# Altium integrated library Linear Technology Power Management PMIC Multifunction.IntLib: 360 symbols (part 1 of 42)
Pins are listed as number, name and electrical type; pins without a type are passive.

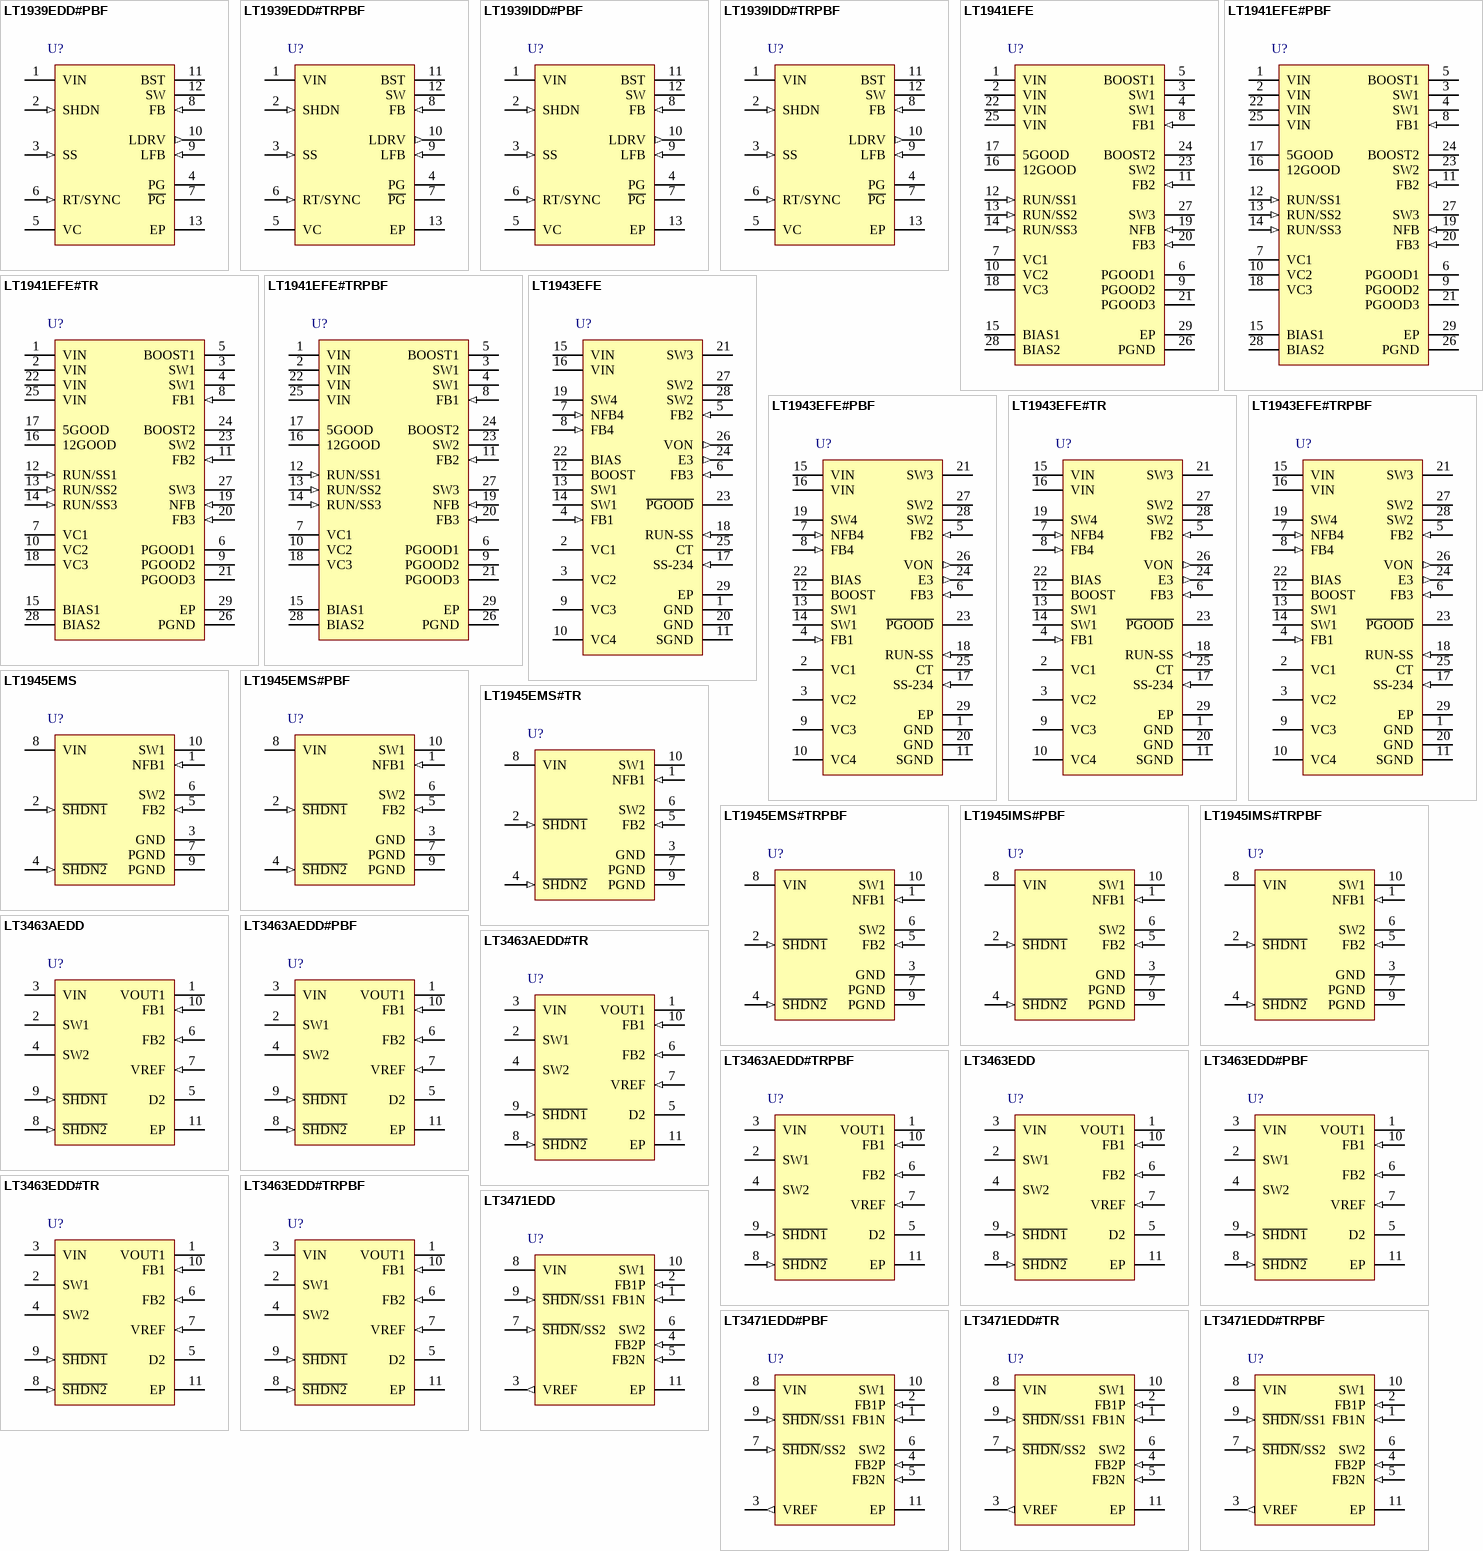
[diagram p0: symbols LT1939EDD#PBF to LT3471EDD#TRPBF]

## LT1939EDD#PBF
designator U?
Monolithic 2 A Step-Down Regulator Plus Linear Regulator / Controller, 3 to 25 V Vin, 12-pin SON (DD-12), -40 to 125 degC, Pb-Free; Manufacturer: Linear Technology; PartNumber: LT1939EDD#PBF; Number of Outputs: 2; Vin Max(V): 25; Vin Min(V): 3; PackageVersion: Rev. A, 06/2010; PackageReference: DD-12; PackageDescription: 12-Pin Plastic DFN, Body 3 x 3 mm, Pitch 0.45 mm; Supplier 1: Digi-Key; Supplier Part Number 1: LT1939EDD#PBF-ND; Supplier 2: Farnell; Supplier Part Number 2: 1628758; Supplier 3: Newark; Supplier Part Number 3: 75M6070; RoHS: TRUE; Mounting Technology: Surface Mount; ComponentLink1Description: Manufacturer URL; ComponentLink1URL: http://www.linear.com/; ComponentLink2Description: Datasheet; ComponentLink2URL: http://cds.linear.com/docs/en/datasheet/1939f.pdf; ComponentLink3Description: Package Specification; ComponentLink3URL: http://cds.linear.com/docs/en/packaging/DFN_12_05-08-1725.pdf
footprint LT-DD-12_V (SON, 12-Leads, Body 3x3mm, Pitch 0.45mm, Thermal Pad 2.38x1.65mm)
pins: 1 VIN (power) "The VIN pin powers the internal control circuitry and is monitored by an undervoltage comparator. The VIN pin is also connected to the collectors of the internal power NPN switch and linear output NPN. The VIN pin has high (See Datasheet)", 2 SHDN (in), 3 SS (in) "The SS pin is used to control the slew rate of the output of both the switching and linear regulators. A single capacitor from the SS pin to ground determines the regulators’ ramp rate. For soft-start details see th(See Datasheet)", 4 PG (oc) "The power good pin is an open-collector output that sinks current when the FB or LFB falls below 90% of its nominal regulating voltage. For VIN above 2V, its output state remains true, although during SHDN, VIN undervoltage (See Datasheet)", 5 VC "The VC pin is the output of the error amplifier and the input to the peak switch current comparator. It is normally used for frequency compensation, but can also be used as a current clamp or control loop override. If the (See Datasheet)", 6 RT/SYNC (in) "This RT/SYNC pin provides two modes of setting the constant switch frequency. Connecting a resistor from the RT/SYNC pin to ground will set the RT/SYNC pin to a typical value of 1V. The resultant switching frequency will be (See Datasheet)", 7 ~{PG} (oc) "The power good bar pin is an open-collector output that sinks current when the FB or LFB rises above 90% of its nominal regulating voltage.", 8 FB (in) "The FB pin is the negative input to the switcher error amplifier. The output switches to regulate this pin to 0.8V with respect to the exposed ground pad. Bias current flows out of the FB pin.", 9 LFB (in) "The LFB pin is the negative input to the linear error amplifier. The LDRV pin servo’s to regulate this pin to 0.8V with respect to the exposed ground pad. Bias current flows out of the LFB pin.", 10 LDRV (out) "The LDRV pin is the emitter of an internal NPN that can be configured as an output of a linear regulator or as the drive for an external NPN high current regulator. Current fl ows out of the LDRV pin when the LFB pin voltage (See Datasheet)", 11 BST "The BST pin provides a higher than VIN base drive to the power NPN to ensure a low switch drop. A comparator to VIN imposes a minimum off time on the SW pin if the BST pin voltage drops too low. Forcing a SW off time allows (See Datasheet)", 12 SW (power) "The SW pin is the emitter of the on-chip power NPN. At switch off, the inductor will drive this pin below ground with a high dV/dt. An external catch diode to ground, close to the SW pin and respective VIN decoupling (See Datasheet)", 13 EP (power) "GND. The Exposed Pad is the only ground connection for the device. The Exposed Pad should be soldered to a large copper area to reduce thermal resistance. The GND pin also serves as small-signal ground. For ideal operation (See Datasheet)"

## LT1939EDD#TRPBF
designator U?
Monolithic 2 A Step-Down Regulator Plus Linear Regulator / Controller, 3 to 25 V Vin, 12-pin SON (DD-12), -40 to 125 degC, Pb-Free, Tape and Reel; Manufacturer: Linear Technology; PartNumber: LT1939EDD#TRPBF; Number of Outputs: 2; Vin Max(V): 25; Vin Min(V): 3; PackageVersion: Rev. A, 06/2010; PackageReference: DD-12; PackageDescription: 12-Pin Plastic DFN, Body 3 x 3 mm, Pitch 0.45 mm; Supplier 1: Digi-Key; Supplier Part Number 1: LT1939EDD#TRPBF-ND; Packing: Tape and Reel; RoHS: TRUE; Mounting Technology: Surface Mount; ComponentLink1Description: Manufacturer URL; ComponentLink1URL: http://www.linear.com/; ComponentLink2Description: Datasheet; ComponentLink2URL: http://cds.linear.com/docs/en/datasheet/1939f.pdf; ComponentLink3Description: Package Specification; ComponentLink3URL: http://cds.linear.com/docs/en/packaging/DFN_12_05-08-1725.pdf
footprint LT-DD-12_V (SON, 12-Leads, Body 3x3mm, Pitch 0.45mm, Thermal Pad 2.38x1.65mm)
pins: 1 VIN (power) "The VIN pin powers the internal control circuitry and is monitored by an undervoltage comparator. The VIN pin is also connected to the collectors of the internal power NPN switch and linear output NPN. The VIN pin has high (See Datasheet)", 2 SHDN (in), 3 SS (in) "The SS pin is used to control the slew rate of the output of both the switching and linear regulators. A single capacitor from the SS pin to ground determines the regulators’ ramp rate. For soft-start details see th(See Datasheet)", 4 PG (oc) "The power good pin is an open-collector output that sinks current when the FB or LFB falls below 90% of its nominal regulating voltage. For VIN above 2V, its output state remains true, although during SHDN, VIN undervoltage (See Datasheet)", 5 VC "The VC pin is the output of the error amplifier and the input to the peak switch current comparator. It is normally used for frequency compensation, but can also be used as a current clamp or control loop override. If the (See Datasheet)", 6 RT/SYNC (in) "This RT/SYNC pin provides two modes of setting the constant switch frequency. Connecting a resistor from the RT/SYNC pin to ground will set the RT/SYNC pin to a typical value of 1V. The resultant switching frequency will be (See Datasheet)", 7 ~{PG} (oc) "The power good bar pin is an open-collector output that sinks current when the FB or LFB rises above 90% of its nominal regulating voltage.", 8 FB (in) "The FB pin is the negative input to the switcher error amplifier. The output switches to regulate this pin to 0.8V with respect to the exposed ground pad. Bias current flows out of the FB pin.", 9 LFB (in) "The LFB pin is the negative input to the linear error amplifier. The LDRV pin servo’s to regulate this pin to 0.8V with respect to the exposed ground pad. Bias current flows out of the LFB pin.", 10 LDRV (out) "The LDRV pin is the emitter of an internal NPN that can be configured as an output of a linear regulator or as the drive for an external NPN high current regulator. Current fl ows out of the LDRV pin when the LFB pin voltage (See Datasheet)", 11 BST "The BST pin provides a higher than VIN base drive to the power NPN to ensure a low switch drop. A comparator to VIN imposes a minimum off time on the SW pin if the BST pin voltage drops too low. Forcing a SW off time allows (See Datasheet)", 12 SW (power) "The SW pin is the emitter of the on-chip power NPN. At switch off, the inductor will drive this pin below ground with a high dV/dt. An external catch diode to ground, close to the SW pin and respective VIN decoupling (See Datasheet)", 13 EP (power) "GND. The Exposed Pad is the only ground connection for the device. The Exposed Pad should be soldered to a large copper area to reduce thermal resistance. The GND pin also serves as small-signal ground. For ideal operation (See Datasheet)"

## LT1939IDD#PBF
designator U?
Monolithic 2 A Step-Down Regulator Plus Linear Regulator / Controller, 3 to 25 V Vin, 12-pin SON (DD-12), -40 to 125 degC, Pb-Free; Manufacturer: Linear Technology; PartNumber: LT1939IDD#PBF; Number of Outputs: 2; Vin Max(V): 25; Vin Min(V): 3; PackageVersion: Rev. A, 06/2010; PackageReference: DD-12; PackageDescription: 12-Pin Plastic DFN, Body 3 x 3 mm, Pitch 0.45 mm; Supplier 1: Digi-Key; Supplier Part Number 1: LT1939IDD#PBF-ND; RoHS: TRUE; Mounting Technology: Surface Mount; ComponentLink1Description: Manufacturer URL; ComponentLink1URL: http://www.linear.com/; ComponentLink2Description: Datasheet; ComponentLink2URL: http://cds.linear.com/docs/en/datasheet/1939f.pdf; ComponentLink3Description: Package Specification; ComponentLink3URL: http://cds.linear.com/docs/en/packaging/DFN_12_05-08-1725.pdf
footprint LT-DD-12_V (SON, 12-Leads, Body 3x3mm, Pitch 0.45mm, Thermal Pad 2.38x1.65mm)
pins: 1 VIN (power) "The VIN pin powers the internal control circuitry and is monitored by an undervoltage comparator. The VIN pin is also connected to the collectors of the internal power NPN switch and linear output NPN. The VIN pin has high (See Datasheet)", 2 SHDN (in), 3 SS (in) "The SS pin is used to control the slew rate of the output of both the switching and linear regulators. A single capacitor from the SS pin to ground determines the regulators’ ramp rate. For soft-start details see th(See Datasheet)", 4 PG (oc) "The power good pin is an open-collector output that sinks current when the FB or LFB falls below 90% of its nominal regulating voltage. For VIN above 2V, its output state remains true, although during SHDN, VIN undervoltage (See Datasheet)", 5 VC "The VC pin is the output of the error amplifier and the input to the peak switch current comparator. It is normally used for frequency compensation, but can also be used as a current clamp or control loop override. If the (See Datasheet)", 6 RT/SYNC (in) "This RT/SYNC pin provides two modes of setting the constant switch frequency. Connecting a resistor from the RT/SYNC pin to ground will set the RT/SYNC pin to a typical value of 1V. The resultant switching frequency will be (See Datasheet)", 7 ~{PG} (oc) "The power good bar pin is an open-collector output that sinks current when the FB or LFB rises above 90% of its nominal regulating voltage.", 8 FB (in) "The FB pin is the negative input to the switcher error amplifier. The output switches to regulate this pin to 0.8V with respect to the exposed ground pad. Bias current flows out of the FB pin.", 9 LFB (in) "The LFB pin is the negative input to the linear error amplifier. The LDRV pin servo’s to regulate this pin to 0.8V with respect to the exposed ground pad. Bias current flows out of the LFB pin.", 10 LDRV (out) "The LDRV pin is the emitter of an internal NPN that can be configured as an output of a linear regulator or as the drive for an external NPN high current regulator. Current fl ows out of the LDRV pin when the LFB pin voltage (See Datasheet)", 11 BST "The BST pin provides a higher than VIN base drive to the power NPN to ensure a low switch drop. A comparator to VIN imposes a minimum off time on the SW pin if the BST pin voltage drops too low. Forcing a SW off time allows (See Datasheet)", 12 SW (power) "The SW pin is the emitter of the on-chip power NPN. At switch off, the inductor will drive this pin below ground with a high dV/dt. An external catch diode to ground, close to the SW pin and respective VIN decoupling (See Datasheet)", 13 EP (power) "GND. The Exposed Pad is the only ground connection for the device. The Exposed Pad should be soldered to a large copper area to reduce thermal resistance. The GND pin also serves as small-signal ground. For ideal operation (See Datasheet)"

## LT1939IDD#TRPBF
designator U?
Monolithic 2 A Step-Down Regulator Plus Linear Regulator / Controller, 3 to 25 V Vin, 12-pin SON (DD-12), -40 to 125 degC, Pb-Free, Tape and Reel; Manufacturer: Linear Technology; PartNumber: LT1939IDD#TRPBF; Number of Outputs: 2; Vin Max(V): 25; Vin Min(V): 3; PackageVersion: Rev. A, 06/2010; PackageReference: DD-12; PackageDescription: 12-Pin Plastic DFN, Body 3 x 3 mm, Pitch 0.45 mm; Supplier 1: Digi-Key; Supplier Part Number 1: LT1939IDD#TRPBF-ND; Packing: Tape and Reel; RoHS: TRUE; Mounting Technology: Surface Mount; ComponentLink1Description: Manufacturer URL; ComponentLink1URL: http://www.linear.com/; ComponentLink2Description: Datasheet; ComponentLink2URL: http://cds.linear.com/docs/en/datasheet/1939f.pdf; ComponentLink3Description: Package Specification; ComponentLink3URL: http://cds.linear.com/docs/en/packaging/DFN_12_05-08-1725.pdf
footprint LT-DD-12_V (SON, 12-Leads, Body 3x3mm, Pitch 0.45mm, Thermal Pad 2.38x1.65mm)
pins: 1 VIN (power) "The VIN pin powers the internal control circuitry and is monitored by an undervoltage comparator. The VIN pin is also connected to the collectors of the internal power NPN switch and linear output NPN. The VIN pin has high (See Datasheet)", 2 SHDN (in), 3 SS (in) "The SS pin is used to control the slew rate of the output of both the switching and linear regulators. A single capacitor from the SS pin to ground determines the regulators’ ramp rate. For soft-start details see th(See Datasheet)", 4 PG (oc) "The power good pin is an open-collector output that sinks current when the FB or LFB falls below 90% of its nominal regulating voltage. For VIN above 2V, its output state remains true, although during SHDN, VIN undervoltage (See Datasheet)", 5 VC "The VC pin is the output of the error amplifier and the input to the peak switch current comparator. It is normally used for frequency compensation, but can also be used as a current clamp or control loop override. If the (See Datasheet)", 6 RT/SYNC (in) "This RT/SYNC pin provides two modes of setting the constant switch frequency. Connecting a resistor from the RT/SYNC pin to ground will set the RT/SYNC pin to a typical value of 1V. The resultant switching frequency will be (See Datasheet)", 7 ~{PG} (oc) "The power good bar pin is an open-collector output that sinks current when the FB or LFB rises above 90% of its nominal regulating voltage.", 8 FB (in) "The FB pin is the negative input to the switcher error amplifier. The output switches to regulate this pin to 0.8V with respect to the exposed ground pad. Bias current flows out of the FB pin.", 9 LFB (in) "The LFB pin is the negative input to the linear error amplifier. The LDRV pin servo’s to regulate this pin to 0.8V with respect to the exposed ground pad. Bias current flows out of the LFB pin.", 10 LDRV (out) "The LDRV pin is the emitter of an internal NPN that can be configured as an output of a linear regulator or as the drive for an external NPN high current regulator. Current fl ows out of the LDRV pin when the LFB pin voltage (See Datasheet)", 11 BST "The BST pin provides a higher than VIN base drive to the power NPN to ensure a low switch drop. A comparator to VIN imposes a minimum off time on the SW pin if the BST pin voltage drops too low. Forcing a SW off time allows (See Datasheet)", 12 SW (power) "The SW pin is the emitter of the on-chip power NPN. At switch off, the inductor will drive this pin below ground with a high dV/dt. An external catch diode to ground, close to the SW pin and respective VIN decoupling (See Datasheet)", 13 EP (power) "GND. The Exposed Pad is the only ground connection for the device. The Exposed Pad should be soldered to a large copper area to reduce thermal resistance. The GND pin also serves as small-signal ground. For ideal operation (See Datasheet)"

## LT1941EFE
designator U?
Triple Monolithic Switching Regulator: 3 A Step Down, 2 A Step Down, 1.5 A Inverting / Boost, 3.5 to 25 V Vin, 28-pin SOP (FE-28-EPV-EB), -40 to 85 degC; Manufacturer: Linear Technology; PartNumber: LT1941EFE; Number of Outputs: 3; Vin Max(V): 25; Vin Min(V): 3.5; DatasheetVersion: Rev. B; PackageVersion: Rev. J, 11/2012; PackageReference: FE-28; PackageDescription: 28-Pin Plastic TSSOP, Body 9.7 x 4.4 mm, Pitch 0.65 mm; Supplier 1: Digi-Key; Supplier Part Number 1: LT1941EFE-ND; RoHS: FALSE; Mounting Technology: Surface Mount; ComponentLink1Description: Manufacturer URL; ComponentLink1URL: http://www.linear.com/; ComponentLink2Description: Datasheet; ComponentLink2URL: http://cds.linear.com/docs/en/datasheet/1941fb.pdf; ComponentLink3Description: Package Specification; ComponentLink3URL: http://cds.linear.com/docs/en/packaging/05081663__J_FE28(EB).pdf
footprint LT-FE-28-EPV-EB_N (SOP, 28-Leads, Body 9.8x4.5mm, Pitch 0.65mm, Thermal Pad 4.75x2.74mm, IPC Medium Density)
footprint LT-FE-28-EPV-EB_L (SOP, 28-Leads, Body 9.8x4.5mm, Pitch 0.65mm, Thermal Pad 4.75x2.74mm, IPC High Density)
footprint LT-FE-28-EPV-EB_M (SOP, 28-Leads, Body 9.8x4.5mm, Pitch 0.65mm, Thermal Pad 4.75x2.74mm, IPC Low Density)
pins: 1 VIN (power) "The VIN  pins supply current to the LT1941’s internal circuitry and to the internal power switches. This pin must be tied to the same source and locally bypassed.", 2 VIN (power) "The VIN  pins supply current to the LT1941’s internal circuitry and to the internal power switches. This pin must be tied to the same source and locally bypassed.", 3 SW1 (power) "The SW pin is the output of the internal power switch. Connect this pin to the inductors and switching diodes.", 4 SW1 (power) "The SW pin is the output of the internal power switch. Connect this pin to the inductors and switching diodes.", 5 BOOST1 "The BOOST pin is used to provide drive voltages, higher than the input voltage, to the internal bipolar NPN power switches. Tie through a diode from VOUT or from VIN .", 6 PGOOD1 (oc) "The PGOOD pin is the open-collector output of an internal comparator. PGOOD remains low until the FB pin is within 10% of the final regulation voltage. As well as indicating output regulation, the PGOOD pin can sequence the (See Datasheet)", 7 VC1 "The VC pin is the output of the internal error amp. The voltage on this pin control the peak switch currents. This pin is normally used to compensate the control loops. Each switching regulator can be shut down by pulling (See Datasheet)", 8 FB1 (in) "The LT1941 regulates each feedback pin to either 0.628 V. Connect the feedback resistor divider taps to this pin.", 9 PGOOD2 (oc) "The PGOOD pin is the open-collector output of an internal comparator. PGOOD remains low until the FB pin is within 10% of the final regulation voltage. As well as indicating output regulation, the PGOOD pin can sequence the (See Datasheet)", 10 VC2 "The VC pin is the output of the internal error amp. The voltage on this pin control the peak switch currents. This pin is normally used to compensate the control loops. Each switching regulator can be shut down by pulling (See Datasheet)", 11 FB2 (in) "The LT1941 regulates each feedback pin to either 0.628 V. Connect the feedback resistor divider taps to this pin.", 12 RUN/SS1 (in) "The RUN/SS pin is used to shut down the individual switching regulators and the internal bias circuits. It also provide a soft-start function. To shut down either regulator, pull the RUN/SS pin to ground with an open drain (See Datasheet)", 13 RUN/SS2 (in) "The RUN/SS pin is used to shut down the individual switching regulators and the internal bias circuits. It also provide a soft-start function. To shut down either regulator, pull the RUN/SS pin to ground with an open drain (See Datasheet)", 14 RUN/SS3 (in) "The RUN/SS pin is used to shut down the individual switching regulators and the internal bias circuits. It also provide a soft-start function. To shut down either regulator, pull the RUN/SS pin to ground with an open drain (See Datasheet)", 15 BIAS1 (power) "The BIAS1 pin supplies the current to the LT1941’s internal regulator. Tie this pin to the lowest available voltage source above 2.35 V (Either VIN , VOUT or any other available supply).", 16 12GOOD (oc) "The 12GOOD pin is the open-collector output of an internal comparator. 12GOOD remains low until V IN is within 10% of 12 V. The pin pulls low when the part is in shutdown. Leave this pin unconnected if unused.", 17 5GOOD (oc) "The 5GOOD pin is the open-collector output of an internal comparator. 5GOOD remains low until V IN is within 10% of 5 V. The pin pulls low when the part is in shutdown. Leave this pin unconnected if unused.", 18 VC3 "The VC pin is the output of the internal error amp. The voltage on this pin control the peak switch currents. This pin is normally used to compensate the control loops. Each switching regulator can be shut down by pulling (See Datasheet)", 19 NFB (in) "The LT1941 contains an op amp confi gured with an output at FB3, noninverting terminal at GND and an inverting terminal at NFB. Connect the feedback resistor network virtual ground at this node if regulating negative (See Datasheet)", 20 FB3 (in) "The LT1941 regulates each feedback pin to either1.25 V. Connect the feedback resistor divider taps to this pin.", 21 PGOOD3 (oc) "The PGOOD pin is the open-collector output of an internal comparator. PGOOD remains low until the FB pin is within 10% of the final regulation voltage. As well as indicating output regulation, the PGOOD pin can sequence the (See Datasheet)", 22 VIN (power) "The VIN  pins supply current to the LT1941’s internal circuitry and to the internal power switches. This pin must be tied to the same source and locally bypassed.", 23 SW2 (power) "The SW pin is the output of the internal power switch. Connect this pin to the inductors and switching diodes.", 24 BOOST2 "The BOOST pin is used to provide drive voltages, higher than the input voltage, to the internal bipolar NPN power switches. Tie through a diode from VOUT or from VIN .", 25 VIN (power) "The VIN  pins supply current to the LT1941’s internal circuitry and to the internal power switches. This pin must be tied to the same source and locally bypassed.", 26 PGND (power) "Tie directly to local ground plane.", 27 SW3 (power) "The SW pin is the output of the internal power switch. Connect this pin to the inductors and switching diodes.", 28 BIAS2 (power) "The BIAS2 pin supplies the current to the driver of SW3. Tie this pin to the lowest available voltage source above 2.5 V (Either VIN , VOUT or any other available supply).", 29 EP (power) "Ground. The underside Exposed Pad metal of the package provides both electrical contact to ground and good thermal contact to the printed circuit board. The Exposed Pad must be soldered to the circuit board ground for proper (See Datasheet)"

## LT1941EFE#PBF
designator U?
Triple Monolithic Switching Regulator: 3 A Step Down, 2 A Step Down, 1.5 A Inverting / Boost, 3.5 to 25 V Vin, 28-pin SOP (FE-28-EPV-EB), -40 to 85 degC, Pb-Free; Manufacturer: Linear Technology; PartNumber: LT1941EFE#PBF; Number of Outputs: 3; Vin Max(V): 25; Vin Min(V): 3.5; DatasheetVersion: Rev. B; PackageVersion: Rev. J, 11/2012; PackageReference: FE-28; PackageDescription: 28-Pin Plastic TSSOP, Body 9.7 x 4.4 mm, Pitch 0.65 mm; Supplier 1: Digi-Key; Supplier Part Number 1: LT1941EFE#PBF-ND; Supplier 2: Farnell; Supplier Part Number 2: 1273793; Supplier 3: Newark; Supplier Part Number 3: 58M1020; RoHS: TRUE; Mounting Technology: Surface Mount; ComponentLink1Description: Manufacturer URL; ComponentLink1URL: http://www.linear.com/; ComponentLink2Description: Datasheet; ComponentLink2URL: http://cds.linear.com/docs/en/datasheet/1941fb.pdf; ComponentLink3Description: Package Specification; ComponentLink3URL: http://cds.linear.com/docs/en/packaging/05081663__J_FE28(EB).pdf
footprint LT-FE-28-EPV-EB_N (SOP, 28-Leads, Body 9.8x4.5mm, Pitch 0.65mm, Thermal Pad 4.75x2.74mm, IPC Medium Density)
footprint LT-FE-28-EPV-EB_L (SOP, 28-Leads, Body 9.8x4.5mm, Pitch 0.65mm, Thermal Pad 4.75x2.74mm, IPC High Density)
footprint LT-FE-28-EPV-EB_M (SOP, 28-Leads, Body 9.8x4.5mm, Pitch 0.65mm, Thermal Pad 4.75x2.74mm, IPC Low Density)
pins: 1 VIN (power) "The VIN  pins supply current to the LT1941’s internal circuitry and to the internal power switches. This pin must be tied to the same source and locally bypassed.", 2 VIN (power) "The VIN  pins supply current to the LT1941’s internal circuitry and to the internal power switches. This pin must be tied to the same source and locally bypassed.", 3 SW1 (power) "The SW pin is the output of the internal power switch. Connect this pin to the inductors and switching diodes.", 4 SW1 (power) "The SW pin is the output of the internal power switch. Connect this pin to the inductors and switching diodes.", 5 BOOST1 "The BOOST pin is used to provide drive voltages, higher than the input voltage, to the internal bipolar NPN power switches. Tie through a diode from VOUT or from VIN .", 6 PGOOD1 (oc) "The PGOOD pin is the open-collector output of an internal comparator. PGOOD remains low until the FB pin is within 10% of the final regulation voltage. As well as indicating output regulation, the PGOOD pin can sequence the (See Datasheet)", 7 VC1 "The VC pin is the output of the internal error amp. The voltage on this pin control the peak switch currents. This pin is normally used to compensate the control loops. Each switching regulator can be shut down by pulling (See Datasheet)", 8 FB1 (in) "The LT1941 regulates each feedback pin to either 0.628 V. Connect the feedback resistor divider taps to this pin.", 9 PGOOD2 (oc) "The PGOOD pin is the open-collector output of an internal comparator. PGOOD remains low until the FB pin is within 10% of the final regulation voltage. As well as indicating output regulation, the PGOOD pin can sequence the (See Datasheet)", 10 VC2 "The VC pin is the output of the internal error amp. The voltage on this pin control the peak switch currents. This pin is normally used to compensate the control loops. Each switching regulator can be shut down by pulling (See Datasheet)", 11 FB2 (in) "The LT1941 regulates each feedback pin to either 0.628 V. Connect the feedback resistor divider taps to this pin.", 12 RUN/SS1 (in) "The RUN/SS pin is used to shut down the individual switching regulators and the internal bias circuits. It also provide a soft-start function. To shut down either regulator, pull the RUN/SS pin to ground with an open drain (See Datasheet)", 13 RUN/SS2 (in) "The RUN/SS pin is used to shut down the individual switching regulators and the internal bias circuits. It also provide a soft-start function. To shut down either regulator, pull the RUN/SS pin to ground with an open drain (See Datasheet)", 14 RUN/SS3 (in) "The RUN/SS pin is used to shut down the individual switching regulators and the internal bias circuits. It also provide a soft-start function. To shut down either regulator, pull the RUN/SS pin to ground with an open drain (See Datasheet)", 15 BIAS1 (power) "The BIAS1 pin supplies the current to the LT1941’s internal regulator. Tie this pin to the lowest available voltage source above 2.35 V (Either VIN , VOUT or any other available supply).", 16 12GOOD (oc) "The 12GOOD pin is the open-collector output of an internal comparator. 12GOOD remains low until V IN is within 10% of 12 V. The pin pulls low when the part is in shutdown. Leave this pin unconnected if unused.", 17 5GOOD (oc) "The 5GOOD pin is the open-collector output of an internal comparator. 5GOOD remains low until V IN is within 10% of 5 V. The pin pulls low when the part is in shutdown. Leave this pin unconnected if unused.", 18 VC3 "The VC pin is the output of the internal error amp. The voltage on this pin control the peak switch currents. This pin is normally used to compensate the control loops. Each switching regulator can be shut down by pulling (See Datasheet)", 19 NFB (in) "The LT1941 contains an op amp confi gured with an output at FB3, noninverting terminal at GND and an inverting terminal at NFB. Connect the feedback resistor network virtual ground at this node if regulating negative (See Datasheet)", 20 FB3 (in) "The LT1941 regulates each feedback pin to either1.25 V. Connect the feedback resistor divider taps to this pin.", 21 PGOOD3 (oc) "The PGOOD pin is the open-collector output of an internal comparator. PGOOD remains low until the FB pin is within 10% of the final regulation voltage. As well as indicating output regulation, the PGOOD pin can sequence the (See Datasheet)", 22 VIN (power) "The VIN  pins supply current to the LT1941’s internal circuitry and to the internal power switches. This pin must be tied to the same source and locally bypassed.", 23 SW2 (power) "The SW pin is the output of the internal power switch. Connect this pin to the inductors and switching diodes.", 24 BOOST2 "The BOOST pin is used to provide drive voltages, higher than the input voltage, to the internal bipolar NPN power switches. Tie through a diode from VOUT or from VIN .", 25 VIN (power) "The VIN  pins supply current to the LT1941’s internal circuitry and to the internal power switches. This pin must be tied to the same source and locally bypassed.", 26 PGND (power) "Tie directly to local ground plane.", 27 SW3 (power) "The SW pin is the output of the internal power switch. Connect this pin to the inductors and switching diodes.", 28 BIAS2 (power) "The BIAS2 pin supplies the current to the driver of SW3. Tie this pin to the lowest available voltage source above 2.5 V (Either VIN , VOUT or any other available supply).", 29 EP (power) "Ground. The underside Exposed Pad metal of the package provides both electrical contact to ground and good thermal contact to the printed circuit board. The Exposed Pad must be soldered to the circuit board ground for proper (See Datasheet)"

## LT1941EFE#TR
designator U?
Triple Monolithic Switching Regulator: 3 A Step Down, 2 A Step Down, 1.5 A Inverting / Boost, 3.5 to 25 V Vin, 28-pin SOP (FE-28-EPV-EB), -40 to 85 degC, Tape and Reel; Manufacturer: Linear Technology; PartNumber: LT1941EFE#TR; Number of Outputs: 3; Vin Max(V): 25; Vin Min(V): 3.5; DatasheetVersion: Rev. B; PackageVersion: Rev. J, 11/2012; PackageReference: FE-28; PackageDescription: 28-Pin Plastic TSSOP, Body 9.7 x 4.4 mm, Pitch 0.65 mm; Supplier 1: Digi-Key; Supplier Part Number 1: LT1941EFE#TR-ND; Packing: Tape and Reel; RoHS: FALSE; Mounting Technology: Surface Mount; ComponentLink1Description: Manufacturer URL; ComponentLink1URL: http://www.linear.com/; ComponentLink2Description: Datasheet; ComponentLink2URL: http://cds.linear.com/docs/en/datasheet/1941fb.pdf; ComponentLink3Description: Package Specification; ComponentLink3URL: http://cds.linear.com/docs/en/packaging/05081663__J_FE28(EB).pdf
footprint LT-FE-28-EPV-EB_N (SOP, 28-Leads, Body 9.8x4.5mm, Pitch 0.65mm, Thermal Pad 4.75x2.74mm, IPC Medium Density)
footprint LT-FE-28-EPV-EB_L (SOP, 28-Leads, Body 9.8x4.5mm, Pitch 0.65mm, Thermal Pad 4.75x2.74mm, IPC High Density)
footprint LT-FE-28-EPV-EB_M (SOP, 28-Leads, Body 9.8x4.5mm, Pitch 0.65mm, Thermal Pad 4.75x2.74mm, IPC Low Density)
pins: 1 VIN (power) "The VIN  pins supply current to the LT1941’s internal circuitry and to the internal power switches. This pin must be tied to the same source and locally bypassed.", 2 VIN (power) "The VIN  pins supply current to the LT1941’s internal circuitry and to the internal power switches. This pin must be tied to the same source and locally bypassed.", 3 SW1 (power) "The SW pin is the output of the internal power switch. Connect this pin to the inductors and switching diodes.", 4 SW1 (power) "The SW pin is the output of the internal power switch. Connect this pin to the inductors and switching diodes.", 5 BOOST1 "The BOOST pin is used to provide drive voltages, higher than the input voltage, to the internal bipolar NPN power switches. Tie through a diode from VOUT or from VIN .", 6 PGOOD1 (oc) "The PGOOD pin is the open-collector output of an internal comparator. PGOOD remains low until the FB pin is within 10% of the final regulation voltage. As well as indicating output regulation, the PGOOD pin can sequence the (See Datasheet)", 7 VC1 "The VC pin is the output of the internal error amp. The voltage on this pin control the peak switch currents. This pin is normally used to compensate the control loops. Each switching regulator can be shut down by pulling (See Datasheet)", 8 FB1 (in) "The LT1941 regulates each feedback pin to either 0.628 V. Connect the feedback resistor divider taps to this pin.", 9 PGOOD2 (oc) "The PGOOD pin is the open-collector output of an internal comparator. PGOOD remains low until the FB pin is within 10% of the final regulation voltage. As well as indicating output regulation, the PGOOD pin can sequence the (See Datasheet)", 10 VC2 "The VC pin is the output of the internal error amp. The voltage on this pin control the peak switch currents. This pin is normally used to compensate the control loops. Each switching regulator can be shut down by pulling (See Datasheet)", 11 FB2 (in) "The LT1941 regulates each feedback pin to either 0.628 V. Connect the feedback resistor divider taps to this pin.", 12 RUN/SS1 (in) "The RUN/SS pin is used to shut down the individual switching regulators and the internal bias circuits. It also provide a soft-start function. To shut down either regulator, pull the RUN/SS pin to ground with an open drain (See Datasheet)", 13 RUN/SS2 (in) "The RUN/SS pin is used to shut down the individual switching regulators and the internal bias circuits. It also provide a soft-start function. To shut down either regulator, pull the RUN/SS pin to ground with an open drain (See Datasheet)", 14 RUN/SS3 (in) "The RUN/SS pin is used to shut down the individual switching regulators and the internal bias circuits. It also provide a soft-start function. To shut down either regulator, pull the RUN/SS pin to ground with an open drain (See Datasheet)", 15 BIAS1 (power) "The BIAS1 pin supplies the current to the LT1941’s internal regulator. Tie this pin to the lowest available voltage source above 2.35 V (Either VIN , VOUT or any other available supply).", 16 12GOOD (oc) "The 12GOOD pin is the open-collector output of an internal comparator. 12GOOD remains low until V IN is within 10% of 12 V. The pin pulls low when the part is in shutdown. Leave this pin unconnected if unused.", 17 5GOOD (oc) "The 5GOOD pin is the open-collector output of an internal comparator. 5GOOD remains low until V IN is within 10% of 5 V. The pin pulls low when the part is in shutdown. Leave this pin unconnected if unused.", 18 VC3 "The VC pin is the output of the internal error amp. The voltage on this pin control the peak switch currents. This pin is normally used to compensate the control loops. Each switching regulator can be shut down by pulling (See Datasheet)", 19 NFB (in) "The LT1941 contains an op amp confi gured with an output at FB3, noninverting terminal at GND and an inverting terminal at NFB. Connect the feedback resistor network virtual ground at this node if regulating negative (See Datasheet)", 20 FB3 (in) "The LT1941 regulates each feedback pin to either1.25 V. Connect the feedback resistor divider taps to this pin.", 21 PGOOD3 (oc) "The PGOOD pin is the open-collector output of an internal comparator. PGOOD remains low until the FB pin is within 10% of the final regulation voltage. As well as indicating output regulation, the PGOOD pin can sequence the (See Datasheet)", 22 VIN (power) "The VIN  pins supply current to the LT1941’s internal circuitry and to the internal power switches. This pin must be tied to the same source and locally bypassed.", 23 SW2 (power) "The SW pin is the output of the internal power switch. Connect this pin to the inductors and switching diodes.", 24 BOOST2 "The BOOST pin is used to provide drive voltages, higher than the input voltage, to the internal bipolar NPN power switches. Tie through a diode from VOUT or from VIN .", 25 VIN (power) "The VIN  pins supply current to the LT1941’s internal circuitry and to the internal power switches. This pin must be tied to the same source and locally bypassed.", 26 PGND (power) "Tie directly to local ground plane.", 27 SW3 (power) "The SW pin is the output of the internal power switch. Connect this pin to the inductors and switching diodes.", 28 BIAS2 (power) "The BIAS2 pin supplies the current to the driver of SW3. Tie this pin to the lowest available voltage source above 2.5 V (Either VIN , VOUT or any other available supply).", 29 EP (power) "Ground. The underside Exposed Pad metal of the package provides both electrical contact to ground and good thermal contact to the printed circuit board. The Exposed Pad must be soldered to the circuit board ground for proper (See Datasheet)"

## LT1941EFE#TRPBF
designator U?
Triple Monolithic Switching Regulator: 3 A Step Down, 2 A Step Down, 1.5 A Inverting / Boost, 3.5 to 25 V Vin, 28-pin SOP (FE-28-EPV-EB), -40 to 85 degC, Pb-Free, Tape and Reel; Manufacturer: Linear Technology; PartNumber: LT1941EFE#TRPBF; Number of Outputs: 3; Vin Max(V): 25; Vin Min(V): 3.5; DatasheetVersion: Rev. B; PackageVersion: Rev. J, 11/2012; PackageReference: FE-28; PackageDescription: 28-Pin Plastic TSSOP, Body 9.7 x 4.4 mm, Pitch 0.65 mm; Supplier 1: Digi-Key; Supplier Part Number 1: LT1941EFE#TRPBF-ND; Packing: Tape and Reel; RoHS: TRUE; Mounting Technology: Surface Mount; ComponentLink1Description: Manufacturer URL; ComponentLink1URL: http://www.linear.com/; ComponentLink2Description: Datasheet; ComponentLink2URL: http://cds.linear.com/docs/en/datasheet/1941fb.pdf; ComponentLink3Description: Package Specification; ComponentLink3URL: http://cds.linear.com/docs/en/packaging/05081663__J_FE28(EB).pdf
footprint LT-FE-28-EPV-EB_N (SOP, 28-Leads, Body 9.8x4.5mm, Pitch 0.65mm, Thermal Pad 4.75x2.74mm, IPC Medium Density)
footprint LT-FE-28-EPV-EB_L (SOP, 28-Leads, Body 9.8x4.5mm, Pitch 0.65mm, Thermal Pad 4.75x2.74mm, IPC High Density)
footprint LT-FE-28-EPV-EB_M (SOP, 28-Leads, Body 9.8x4.5mm, Pitch 0.65mm, Thermal Pad 4.75x2.74mm, IPC Low Density)
pins: 1 VIN (power) "The VIN  pins supply current to the LT1941’s internal circuitry and to the internal power switches. This pin must be tied to the same source and locally bypassed.", 2 VIN (power) "The VIN  pins supply current to the LT1941’s internal circuitry and to the internal power switches. This pin must be tied to the same source and locally bypassed.", 3 SW1 (power) "The SW pin is the output of the internal power switch. Connect this pin to the inductors and switching diodes.", 4 SW1 (power) "The SW pin is the output of the internal power switch. Connect this pin to the inductors and switching diodes.", 5 BOOST1 "The BOOST pin is used to provide drive voltages, higher than the input voltage, to the internal bipolar NPN power switches. Tie through a diode from VOUT or from VIN .", 6 PGOOD1 (oc) "The PGOOD pin is the open-collector output of an internal comparator. PGOOD remains low until the FB pin is within 10% of the final regulation voltage. As well as indicating output regulation, the PGOOD pin can sequence the (See Datasheet)", 7 VC1 "The VC pin is the output of the internal error amp. The voltage on this pin control the peak switch currents. This pin is normally used to compensate the control loops. Each switching regulator can be shut down by pulling (See Datasheet)", 8 FB1 (in) "The LT1941 regulates each feedback pin to either 0.628 V. Connect the feedback resistor divider taps to this pin.", 9 PGOOD2 (oc) "The PGOOD pin is the open-collector output of an internal comparator. PGOOD remains low until the FB pin is within 10% of the final regulation voltage. As well as indicating output regulation, the PGOOD pin can sequence the (See Datasheet)", 10 VC2 "The VC pin is the output of the internal error amp. The voltage on this pin control the peak switch currents. This pin is normally used to compensate the control loops. Each switching regulator can be shut down by pulling (See Datasheet)", 11 FB2 (in) "The LT1941 regulates each feedback pin to either 0.628 V. Connect the feedback resistor divider taps to this pin.", 12 RUN/SS1 (in) "The RUN/SS pin is used to shut down the individual switching regulators and the internal bias circuits. It also provide a soft-start function. To shut down either regulator, pull the RUN/SS pin to ground with an open drain (See Datasheet)", 13 RUN/SS2 (in) "The RUN/SS pin is used to shut down the individual switching regulators and the internal bias circuits. It also provide a soft-start function. To shut down either regulator, pull the RUN/SS pin to ground with an open drain (See Datasheet)", 14 RUN/SS3 (in) "The RUN/SS pin is used to shut down the individual switching regulators and the internal bias circuits. It also provide a soft-start function. To shut down either regulator, pull the RUN/SS pin to ground with an open drain (See Datasheet)", 15 BIAS1 (power) "The BIAS1 pin supplies the current to the LT1941’s internal regulator. Tie this pin to the lowest available voltage source above 2.35 V (Either VIN , VOUT or any other available supply).", 16 12GOOD (oc) "The 12GOOD pin is the open-collector output of an internal comparator. 12GOOD remains low until V IN is within 10% of 12 V. The pin pulls low when the part is in shutdown. Leave this pin unconnected if unused.", 17 5GOOD (oc) "The 5GOOD pin is the open-collector output of an internal comparator. 5GOOD remains low until V IN is within 10% of 5 V. The pin pulls low when the part is in shutdown. Leave this pin unconnected if unused.", 18 VC3 "The VC pin is the output of the internal error amp. The voltage on this pin control the peak switch currents. This pin is normally used to compensate the control loops. Each switching regulator can be shut down by pulling (See Datasheet)", 19 NFB (in) "The LT1941 contains an op amp confi gured with an output at FB3, noninverting terminal at GND and an inverting terminal at NFB. Connect the feedback resistor network virtual ground at this node if regulating negative (See Datasheet)", 20 FB3 (in) "The LT1941 regulates each feedback pin to either1.25 V. Connect the feedback resistor divider taps to this pin.", 21 PGOOD3 (oc) "The PGOOD pin is the open-collector output of an internal comparator. PGOOD remains low until the FB pin is within 10% of the final regulation voltage. As well as indicating output regulation, the PGOOD pin can sequence the (See Datasheet)", 22 VIN (power) "The VIN  pins supply current to the LT1941’s internal circuitry and to the internal power switches. This pin must be tied to the same source and locally bypassed.", 23 SW2 (power) "The SW pin is the output of the internal power switch. Connect this pin to the inductors and switching diodes.", 24 BOOST2 "The BOOST pin is used to provide drive voltages, higher than the input voltage, to the internal bipolar NPN power switches. Tie through a diode from VOUT or from VIN .", 25 VIN (power) "The VIN  pins supply current to the LT1941’s internal circuitry and to the internal power switches. This pin must be tied to the same source and locally bypassed.", 26 PGND (power) "Tie directly to local ground plane.", 27 SW3 (power) "The SW pin is the output of the internal power switch. Connect this pin to the inductors and switching diodes.", 28 BIAS2 (power) "The BIAS2 pin supplies the current to the driver of SW3. Tie this pin to the lowest available voltage source above 2.5 V (Either VIN , VOUT or any other available supply).", 29 EP (power) "Ground. The underside Exposed Pad metal of the package provides both electrical contact to ground and good thermal contact to the printed circuit board. The Exposed Pad must be soldered to the circuit board ground for proper (See Datasheet)"

## LT1943EFE
designator U?
High Current Quad Output Regulator for TFT LCD Display, 4.5 to 22 V Vin, 28-pin SOP (FE-28-EPV-EB), -40 to 85 degC; Manufacturer: Linear Technology; PartNumber: LT1943EFE; Number of Outputs: 4; Vin Max(V): 22; Vin Min(V): 4.5; DatasheetVersion: Rev. A; PackageVersion: Rev. J, 11/2012; PackageReference: FE-28; PackageDescription: 28-Pin Plastic TSSOP, Body 9.7 x 4.4 mm, Pitch 0.65 mm; Supplier 1: Digi-Key; Supplier Part Number 1: LT1943EFE-ND; RoHS: FALSE; Mounting Technology: Surface Mount; ComponentLink1Description: Manufacturer URL; ComponentLink1URL: http://www.linear.com/; ComponentLink2Description: Datasheet; ComponentLink2URL: http://cds.linear.com/docs/en/datasheet/1943f.pdf; ComponentLink3Description: Package Specification; ComponentLink3URL: http://cds.linear.com/docs/en/packaging/05081663__J_FE28(EB).pdf
footprint LT-FE-28-EPV-EB_N (SOP, 28-Leads, Body 9.8x4.5mm, Pitch 0.65mm, Thermal Pad 4.75x2.74mm, IPC Medium Density)
footprint LT-FE-28-EPV-EB_L (SOP, 28-Leads, Body 9.8x4.5mm, Pitch 0.65mm, Thermal Pad 4.75x2.74mm, IPC High Density)
footprint LT-FE-28-EPV-EB_M (SOP, 28-Leads, Body 9.8x4.5mm, Pitch 0.65mm, Thermal Pad 4.75x2.74mm, IPC Low Density)
pins: 1 GND (power) "Ground. Tie both GND pins and the exposed pad directly to a local ground plane.", 2 VC1 "Switching Regulator 1 Error Amplifier Compensation. Connect a resistor / capacitor network in series with this pin.", 3 VC2 "Error Amplifier Compensation for Switcher 2. Connect a resistor / capacitor network in series with this pin.", 4 FB1 (in) "Switching Regulator 1 Feedback. Tie the resistor divider tap to this pin and set VLOGIC according to VLOGIC = 1.25 ?(1 + R2/R1). Reference designators refer to Figure 1.", 5 FB2 (in) "Feedback for Switch 2. Tie the resistor divider tap to this pin and set AVDD according to AVDD  = 1.25 ?(1 + R6/R5).", 6 FB3 (in) "Switching Regulator 3 Feedback. Tie the resistor divider tap to this pin and set VON according to VON = 1.25 ?(1 + R9/R8) - 150 mV.", 7 NFB4 (in) "Switching Regulator 4 Negative Feedback. Switcher 4 can be used to generate a positive or negative output.", 8 FB4 (in) "Feedback for Switch 4. When generating a positive voltage from switch 4, tie the resistor divider tap to this pin. When generating a negative voltage, tie a 10 k resistor between FB4 and NFB4 (R4).", 9 VC3 "Switching Regulator 3 Error Amplifier Com- pensation. Connect a resistor / capacitor network in series with this pin.", 10 VC4 "Switching Regulator 4 Error Amplifier Compensation. Connect a resistor / capacitor network in series with this pin.", 11 SGND (power) "Signal Ground. Return ground trace from the FB resistor networks and VC pin compensation components directly to this pin and then tie to ground.", 12 BOOST "The BOOST pin is used to provide a drive voltage, higher than VIN , to the switch 1 drive circuit.", 13 SW1 (power) "The SW1 pins are the emitter of the internal NPN bipolar power transistor for switching regulator 1.", 14 SW1 (power) "The SW1 pins are the emitter of the internal NPN bipolar power transistor for switching regulator 1.", 15 VIN (power) "The VIN pin supply current to the LT1943’s internal regulator and to the internal power transistor for switch 1. This pin must be tied together and locally bypassed.", 16 VIN (power) "The VIN pin supply current to the LT1943’s internal regulator and to the internal power transistor for switch 1. This pin must be tied together and locally bypassed.", 17 SS-234 (in) "This is the soft-start pin for switching regulators 2, 3 and 4. Place a soft-start capacitor here to limit start-up inrush current and output voltage ramp rate.", 18 RUN-SS (in) "This is the soft-start pin for switching regulator 1. Place a soft-start capacitor here to limit start- up inrush current and output voltage ramp rate.", 19 SW4 (power) "This is the collector of the internal NPN bipolar power transistor for switching regulator 4. Mini- mize metal trace area at this pin to keep EMI down.", 20 GND (power) "Ground. Tie both GND pins and the exposed pad directly to a local ground plane.", 21 SW3 (power) "This is the collector of the internal NPN bipolar power transistor for switching regulator 3. Mini- mize metal trace area at this pin to keep EMI down.", 22 BIAS (power) "The BIAS pin is used to improve efficiency when operating at higher input voltages. Connecting this pin to the output of switching regulator 1 forces most of the internal circuitry to draw its operating current from VLOGIC (See Datasheet)", 23 ~{PGOOD} (oc) "Power Good Comparator Output. This is the open collector output of the power good comparator and can be used in conjunction with an external P-Channel MOSFET to provide output disconnect for AV DD as shown in the 5 V Input, (See Datasheet)", 24 E3 (out) "This is switching regulator 3 output and the emitter of the output disconnect PNP. Tie the output capacitor and resistor divider here.", 25 CT "Timing Capacitor Pin. This is the input to the VON timer and programs the time delay from all four feedback pins reaching 1.125 V to VON turning on.", 26 VON (out) "This is the delayed output for switching regulator 3. VON reaches its programmed voltage after the internal CT timer times out. Protection circuitry ensures VON is disabled if any of the four outputs are more than 10% below (See Datasheet)", 27 SW2 (power) "The SW2 pins are the collector of the internal NPN bipolar power transistor for switching regulator 2. These pins must be tied together. Minimize trace area at these pins to keep EMI down.", 28 SW2 (power) "The SW2 pins are the collector of the internal NPN bipolar power transistor for switching regulator 2. These pins must be tied together. Minimize trace area at these pins to keep EMI down.", 29 EP (power) "Ground. The ground metal to the exposed pad should be as wide as possible for better heat dissipation. Multiple vias (to ground plane under the ground backplane) placed close to the exposed pad can further aid in reducing (See Datasheet)"